# Altium schematic symbol library Peripherie.SchLib: 1 symbol
Pins are listed as number, name and electrical type; pins without a type are passive.

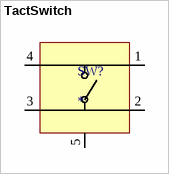
[diagram p0: symbol TactSwitch]

## TactSwitch
designator SW?
pins: 1, 2, 3, 4, 5 GNF